# EAGLE library part LP2951*? (library ON Semiconductor LP2950, LP2951, NCV2951)
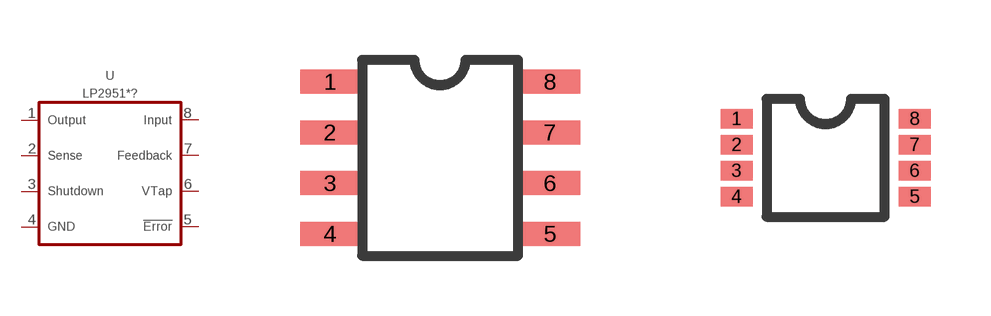
[diagram p1: symbol with the pads of SOIC-8; footprints SOIC-8, MICRO8]

Designator prefix U

## LP2951ACD-3.0 (OUTPUT_VOLTAGE: 3.0 V; OUTPUT_VOLTAGE_PRECISION: 0.5%), LP2951CD-3.0 (OUTPUT_VOLTAGE: 3.0 V; OUTPUT_VOLTAGE_PRECISION: 1%)  [SOIC-8]
1  OUTPUT
2  SENSE
3  SHUTDOWN
4  GND
5  ERROROUTPUT
6  VOTAP
7  FEEDBACK
8  INPUT

## LP2951ACD-3.3 (OUTPUT_VOLTAGE: 3.3 V; OUTPUT_VOLTAGE_PRECISION: 0.5%), LP2951CD-3.3 (OUTPUT_VOLTAGE: 3.3 V; OUTPUT_VOLTAGE_PRECISION: 1%)  [SOIC-8]
Pads as for SOIC-8

## LP2951ACD (OUTPUT_VOLTAGE: 5.0 V or Adjustable; OUTPUT_VOLTAGE_PRECISION: 0.5%), LP2951CD (OUTPUT_VOLTAGE: 5.0 V or Adjustable; OUTPUT_VOLTAGE_PRECISION: 1%)  [SOIC-8]
Pads as for SOIC-8

## LP2951ACDM-3.0 (OUTPUT_VOLTAGE: 3.0 V; OUTPUT_VOLTAGE_PRECISION: 0.5%), LP2951CDM-3.0 (OUTPUT_VOLTAGE: 3.0 V; OUTPUT_VOLTAGE_PRECISION: 1%)  [MICRO8]
Pads as for SOIC-8

## LP2951ACDM-3.3 (OUTPUT_VOLTAGE: 3.3 V; OUTPUT_VOLTAGE_PRECISION: 0.5%), LP2951CDM-3.3 (OUTPUT_VOLTAGE: 3.3 V; OUTPUT_VOLTAGE_PRECISION: 1%)  [MICRO8]
Pads as for SOIC-8

## LP2951ACDM (OUTPUT_VOLTAGE: 5.0 V or Adjustable; OUTPUT_VOLTAGE_PRECISION: 0.5%), LP2951CDM (OUTPUT_VOLTAGE: 5.0 V or Adjustable; OUTPUT_VOLTAGE_PRECISION: 1%)  [MICRO8]
Pads as for SOIC-8

## LP2951ACN-3.0 (OUTPUT_VOLTAGE: 3.0 V; OUTPUT_VOLTAGE_PRECISION: 0.5%), LP2951CN-3.0 (OUTPUT_VOLTAGE: 3.0 V; OUTPUT_VOLTAGE_PRECISION: 1%)  [PDIP-8]
Pads as for SOIC-8

## LP2951ACN-3.3 (OUTPUT_VOLTAGE: 3.3 V; OUTPUT_VOLTAGE_PRECISION: 0.5%), LP2951CN-3.3 (OUTPUT_VOLTAGE: 3.3 V; OUTPUT_VOLTAGE_PRECISION: 1%)  [PDIP-8]
Pads as for SOIC-8

## LP2951ACN (OUTPUT_VOLTAGE: 5.0 V or Adjustable; OUTPUT_VOLTAGE_PRECISION: 0.5%), LP2951CN (OUTPUT_VOLTAGE: 5.0 V or Adjustable; OUTPUT_VOLTAGE_PRECISION: 1%)  [PDIP-8]
Pads as for SOIC-8

## Footprint SOIC-8 (pad centres in mm)
smd 1.5 x 0.6: 1 -2.75,1.905; 2 -2.75,0.635; 3 -2.75,-0.635; 4 -2.75,-1.905; 5 2.75,-1.905; 6 2.75,-0.635; 7 2.75,0.635; 8 2.75,1.905

## Footprint MICRO8 (pad centres in mm)
smd 0.8 x 0.48: 1 -2.225,0.975; 2 -2.225,0.325; 3 -2.225,-0.325; 4 -2.225,-0.975; 5 2.225,-0.975; 6 2.225,-0.325; 7 2.225,0.325; 8 2.225,0.975

## Footprint PDIP-8 (pad centres in mm)
drill 1 pad 1.5: 1 -3.81,3.81; 2 -3.81,1.27; 3 -3.81,-1.27; 4 -3.81,-3.81; 5 3.81,-3.81; 6 3.81,-1.27; 7 3.81,1.27; 8 3.81,3.81